# Altium schematic symbol library Diode.SchLib: 2 symbols
Pins are listed as number, name and electrical type; pins without a type are passive.

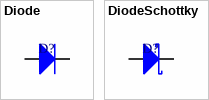
[diagram p0: symbols Diode to DiodeSchottky]

## Diode
designator D?  (value not drawn)
footprint DO-214AB_N (DO-214AB (SMC), 6.2x7.1mm Body, 8.1mm Lead Span, IPC Medium Density)
pins: A, K

## DiodeSchottky
designator D?  (value not drawn)
Schottky Diode
footprint SOD128_N (SOD128, 4.0x2.7mm Body, 5mm Lead Span, IPC Medium Density)
footprint SOD123W_N (SOD123W, 2.8x1.9mm Body, 3.7mm Lead Span, IPC Medium Density)
pins: A, K